# Altium footprint library PcbLib1.PcbLib: 25 footprints (part 1 of 2)
Each footprint in its own frame and in the unit in brackets; x right, y up, seen from the top. Pads: shape width x height; smd on the part's side, far side on the other; paste and mask are expansions set on the pad; w line width, h text height; cw(c..) or ccw(c..) is an arc to the next point about the centre after c.
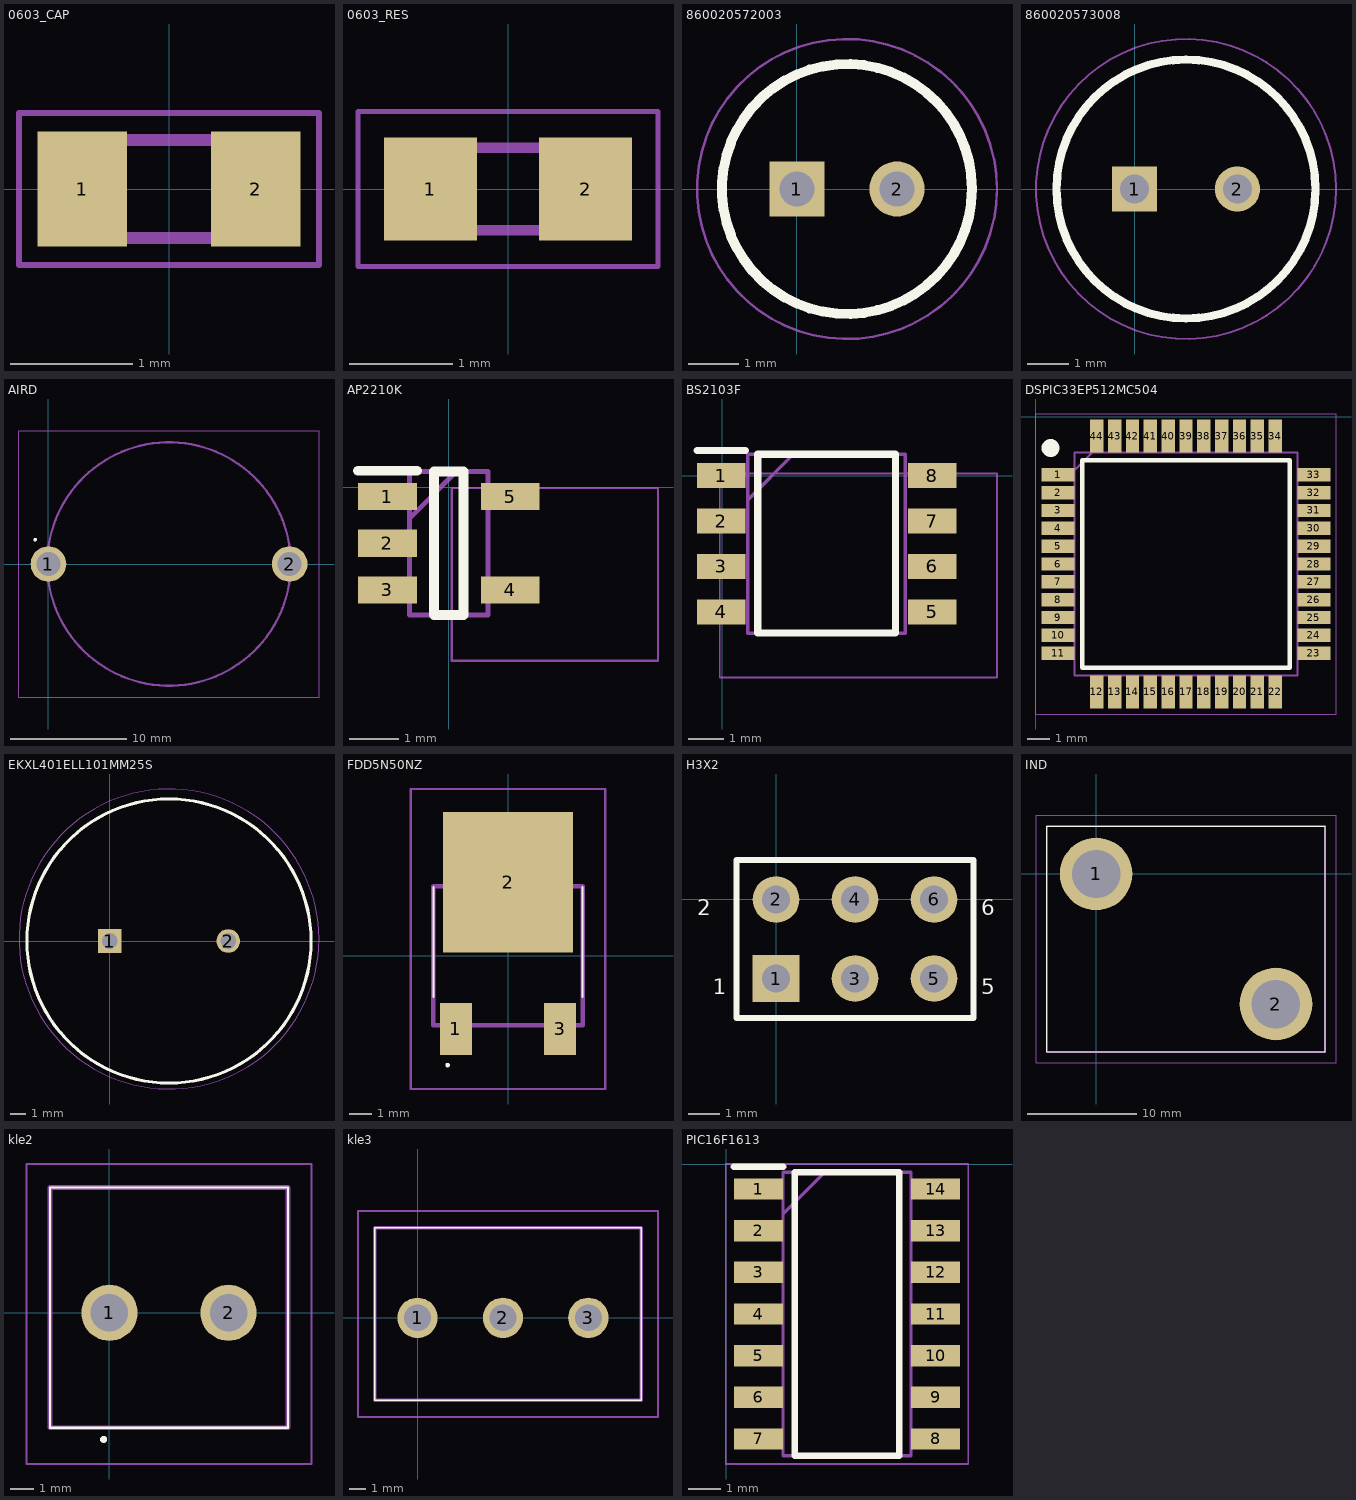
[diagram p0: the footprints below, top view; thin cyan lines are the x and y axes]

## 0603_CAP [mm]
pads (2):
  rect 0.73x0.94 smd: 1(-0.71,0) 2(0.71,0)
Mechanical 15:
  lines w0.1: -0.8,-0.4 -0.8,0.4 0.8,0.4 0.8,-0.4 -0.8,-0.4
Mechanical 20:
  lines w0.05: -1.225,-0.62 -1.225,0.62 1.225,0.62 1.225,-0.62 -1.225,-0.62
3D body "CL10A105KA8NNNC.stp": height 0.9, standoff 0, extent -0.8,-0.4 0.8,0.4

## 0603_RES [mm]
pads (2):
  rect 0.9x1 smd: 1(-0.75,0) 2(0.75,0)
Mechanical 15:
  lines w0.1: -0.775,-0.4 0.775,-0.4 0.775,0.4 -0.775,0.4 -0.775,-0.4
Mechanical 20:
  lines w0.05: -1.45,-0.75 1.45,-0.75 1.45,0.75 -1.45,0.75 -1.45,-0.75
3D body "RMCF0603ZT0R00.stp": height 0.55, standoff 0, extent -0.775,-0.4 0.775,0.4

## 860020572003 [mm]
pads (2):
  rect 1.1x1.1 / inner round 1.1 / far side rect 1.1x1.1 hole 0.7: 1(0,0)
  round 1.1 hole 0.7: 2(2,0)
Top Overlay:
  circle w0.2: c1,0 r2.5
Mechanical 15:
  circle w0.1: c1,0 r2.5
Mechanical 20:
  circle w0.05: c1,0 r3
3D body "860020572003.stp": height 12.5, standoff -10, extent -1.75,-2.75 3.75,2.75

## 860020573008 [mm]
pads (2):
  rect 1.1x1.1 / inner round 1.1 / far side rect 1.1x1.1 hole 0.7: 1(0,0)
  round 1.1 hole 0.7: 2(2.5,0)
Top Overlay:
  circle w0.2: c1.25,0 r3.15
Mechanical 15:
  circle w0.1: c1.25,0 r3.15
Mechanical 20:
  circle w0.05: c1.25,0 r3.65
3D body "860020573008.stp": height 12.5, standoff -10, extent -2.15,-3.4 4.65,3.4

## AIRD [mm]
pads (2):
  round 3.075 hole 2.05: 1(0,0) 2(20.8,0)
Top Overlay:
  lines w0.2: -1.2,2.1 ccw(c-1.15,2.1) -1.1,2.1 ; -1.2,2.1 cw(c-1.15,2.1) -1.1,2.1 ; -1.2,2.1 ccw(c-1.15,2.1) -1.1,2.1
Mechanical 15:
  lines w0.2: -0.1,0 ccw(c10.4,0) 20.9,0 ccw(c10.4,0) -0.1,0
Mechanical 20:
  lines w0.1: -2.538,-11.5 23.337,-11.5 23.337,11.5 -2.538,11.5 -2.538,-11.5
3D body "AIRD-02-100K.stp": height 21.1, standoff -5, extent -0.925,-10.5 21.718,10.5

## AP2210K [mm]
pads (5):
  rect 1.2x0.55 smd: 1(-1.25,-0.193) 2(-1.25,-1.143) 3(-1.25,-2.093) 4(1.25,-2.093) 5(1.25,-0.193)
Top Overlay:
  lines w0.2: -1.85,0.332 -0.65,0.332 ; -0.3,-2.603 -0.3,0.317 0.3,0.317 0.3,-2.603 -0.3,-2.603
Mechanical 15:
  lines w0.1: -0.8,-0.633 0.15,0.317 ; -0.8,-2.603 -0.8,0.317 0.8,0.317 0.8,-2.603 -0.8,-2.603
Mechanical 20:
  lines w0.05: 0.059,-3.538 0.059,-0.018 4.259,-0.018 4.259,-3.538 0.059,-3.538
3D body "AP2210K-3.3TRG1.stp": height 1.45, standoff 0, extent -1.4,-2.603 1.4,0.317

## BS2103F [mm]
pads (8):
  rect 1.35x0.7 smd: 1(-0.029,0) 2(-0.029,-1.27) 3(-0.029,-2.54) 4(-0.029,-3.81) 5(5.871,-3.81) 6(5.871,-2.54) 7(5.871,-1.27) 8(5.871,0)
Top Overlay:
  lines w0.2: -0.704,0.7 0.646,0.7 ; 0.996,-4.405 4.846,-4.405 4.846,0.595 0.996,0.595 0.996,-4.405
Mechanical 15:
  lines w0.1: 0.721,-0.675 1.991,0.595 ; 0.721,-4.405 5.121,-4.405 5.121,0.595 0.721,0.595 0.721,-4.405
Mechanical 20:
  lines w0.05: -0.065,-5.644 7.685,-5.644 7.685,0.056 -0.065,0.056 -0.065,-5.644
3D body: height 1.85, standoff 0, extent 0.762,-4.445 5.08,0.635

## DSPIC33EP512MC504 [mm]
pads (44):
  rect 1.475x0.6 smd: 1(0.993,-2.604) 2(0.993,-3.404) 3(0.993,-4.204) 4(0.993,-5.004) 5(0.993,-5.804) 6(0.993,-6.604) 7(0.993,-7.404) 8(0.993,-8.204) 9(0.993,-9.004) 10(0.993,-9.804) 11(0.993,-10.604) 23(12.469,-10.604) 24(12.469,-9.804) 25(12.469,-9.004) 26(12.469,-8.204) 27(12.469,-7.404) 28(12.469,-6.604) 29(12.469,-5.804) 30(12.469,-5.004) 31(12.469,-4.204) 32(12.469,-3.404) 33(12.469,-2.604)
  rect 0.6x1.475 smd: 12(2.731,-12.342) 13(3.531,-12.342) 14(4.331,-12.342) 15(5.131,-12.342) 16(5.931,-12.342) 17(6.731,-12.342) 18(7.531,-12.342) 19(8.331,-12.342) 20(9.131,-12.342) 21(9.931,-12.342) 22(10.731,-12.342) 34(10.731,-0.866) 35(9.931,-0.866) 36(9.131,-0.866) 37(8.331,-0.866) 38(7.531,-0.866) 39(6.731,-0.866) 40(5.931,-0.866) 41(5.131,-0.866) 42(4.331,-0.866) 43(3.531,-0.866) 44(2.731,-0.866)
Top Overlay:
  circle w0.4: c0.656,-1.404 r0.2
  lines w0.2: 2.081,-11.254 2.081,-1.954 11.381,-1.954 11.381,-11.254 2.081,-11.254
Mechanical 15:
  lines w0.1: 1.731,-2.404 2.531,-1.604 ; 1.731,-11.604 1.731,-1.604 11.731,-1.604 11.731,-11.604 1.731,-11.604
Mechanical 20:
  lines w0.05: 0.006,-13.329 0.006,0.121 13.456,0.121 13.456,-13.329 0.006,-13.329

## EKXL401ELL101MM25S [mm]
pads (2):
  rect 1.5x1.5 / inner round 1.5 / far side rect 1.5x1.5 hole 1: 1(0,0)
  round 1.5 hole 1: 2(7.5,0)
Top Overlay:
  circle w0.2: c3.75,0 r9
Mechanical 15:
  circle w0.1: c3.75,0 r9
Mechanical 20:
  circle w0.05: c3.75,0.127 r9.5
3D body "ESH107M450AN2AA.stp": height 38, standoff -10, extent -5.5,-9.245 13,9.245

## FDD5N50NZ [mil]
pads (3):
  rect 55x90 smd: 1(-90,-126.69) 3(90,-126.69)
  rect 224.02x243.31 smd: 2(0,126.65)
Top Overlay:
  lines w3.94: -128.74,-70.87 -128.74,118.11 ; 128.74,-70.87 128.74,118.11 ; -106.3,-188.98 cw(c-104.33,-188.98) -102.36,-188.98 cw(c-104.33,-188.98) -106.3,-188.98
Mechanical 15:
  lines w7.87: -128.74,-119.96 128.74,-119.96 128.74,119.96 -128.74,119.96 -128.74,-119.96
Mechanical 20:
  lines w3.94: -168.11,-230.31 168.11,-230.31 168.11,287.72 -168.11,287.72 -168.11,-230.31
3D body "User Library-heatsink assman V-1100-SMD-B-L TO-252.STEP": height 384.81, standoff -5.19, extent -402.78,-102.36 410.61,217.72
3D body "SUD50P06-15L-T4-E3.stp": height 98.03, standoff 0, extent -128.73,-166.19 128.74,225.91

## H3X2 [mm]
pads (6):
  rect 1.5x1.5 hole 0.9: 1(0,-2.54)
  round 1.5 hole 0.9: 2(0,0) 3(2.54,-2.54) 4(2.54,0) 5(5.08,-2.54) 6(5.08,0)
Top Overlay:
  lines w0.2: 1.482,-3.81 6.35,-3.81 ; 6.35,-3.81 -1.27,-3.81 -1.27,1.27 6.35,1.27 6.35,-3.81
  text "1" at -2.032,-3.048 h0.5
  text "2" at -2.54,-0.508 h0.5
  text "5" at 6.604,-3.048 h0.5
  text "6" at 6.604,-0.508 h0.5
3D body "PH2-06-UA.stp": height 9.01, standoff -3.56, extent -1.27,-3.77 6.35,1.23

## heatsink [mm]
3D body "User Library-heatsink assman V-1100-SMD-B-L TO-252.STEP": height 3.77, standoff -6.13, extent -9.568,-4.191 11.092,3.939

## IND [mm]
pads (2):
  round 6.66 hole 4.44: 1(0,0)
  round 6.675 hole 4.45: 2(16.5,-11.94)
Top Overlay:
  lines w0.1: -4.515,-16.335 -4.515,4.395 21.015,4.395 21.015,-16.335 -4.515,-16.335
Mechanical 15:
  lines w0.2: -4.515,-16.335 -4.515,4.395 21.015,4.395 21.015,-16.335 -4.515,-16.335
Mechanical 20:
  lines w0.1: -5.515,-17.335 -5.515,5.395 22.015,5.395 22.015,-17.335 -5.515,-17.335

## kle2 [mm]
pads (2):
  round 2.4 hole 1.6: 1(0,0) 2(5.08,0)
Top Overlay:
  lines w0.1: -2.54,-4.9 -2.54,5.35 7.62,5.35 7.62,-4.9 -2.54,-4.9
  lines w0.2: -0.3,-5.4 ccw(c-0.25,-5.4) -0.2,-5.4 ; -0.3,-5.4 cw(c-0.25,-5.4) -0.2,-5.4 ; -0.3,-5.4 ccw(c-0.25,-5.4) -0.2,-5.4
Mechanical 15:
  lines w0.2: -2.54,-4.9 -2.54,5.35 7.62,5.35 7.62,-4.9 -2.54,-4.9
Mechanical 20:
  lines w0.1: -3.54,-6.45 -3.54,6.35 8.62,6.35 8.62,-6.45 -3.54,-6.45
3D body "TB007-508-02BE.stp": height 14.1, standoff -5, extent -2.54,-4.9 7.62,5.35

## kle3 [mm]
pads (3):
  round 2.4 hole 1.6: 1(0,0) 2(5.08,0) 3(10.16,0)
Top Overlay:
  lines w0.1: -2.54,-4.9 -2.54,5.35 13.3,5.35 13.3,-4.9 -2.54,-4.9
Mechanical 15:
  lines w0.2: -2.54,-4.9 -2.54,5.35 13.3,5.35 13.3,-4.9 -2.54,-4.9
Mechanical 20:
  lines w0.1: -3.54,-5.9 -3.54,6.35 14.3,6.35 14.3,-5.9 -3.54,-5.9
3D body "TB007-508-03BE.stp": height 14.5, standoff -5, extent -2.54,-4.9 13.3,5.35

## PIC16F1613 [mm]
pads (14):
  rect 1.5x0.65 smd: 1(0.983,-0.762) 2(0.983,-2.032) 3(0.983,-3.302) 4(0.983,-4.572) 5(0.983,-5.842) 6(0.983,-7.112) 7(0.983,-8.382) 8(6.383,-8.382) 9(6.383,-7.112) 10(6.383,-5.842) 11(6.383,-4.572) 12(6.383,-3.302) 13(6.383,-2.032) 14(6.383,-0.762)
Top Overlay:
  lines w0.2: 0.233,-0.087 1.733,-0.087 ; 2.083,-8.897 2.083,-0.247 5.283,-0.247 5.283,-8.897 2.083,-8.897
Mechanical 15:
  lines w0.1: 1.733,-1.517 3.003,-0.247 ; 1.733,-8.897 1.733,-0.247 5.633,-0.247 5.633,-8.897 1.733,-8.897
Mechanical 20:
  lines w0.05: -0.017,-9.147 -0.017,0.003 7.383,0.003 7.383,-9.147 -0.017,-9.147
3D body "PIC16F1613-I_SL.stp": height 1.75, standoff 0, extent 0.683,-8.77 6.683,-0.12